# Altium footprint library SBC5.PcbLib: 19 footprints (part 1 of 2)
Each footprint in its own frame and in the unit in brackets; x right, y up, seen from the top. Pads: shape width x height; smd on the part's side, far side on the other; paste and mask are expansions set on the pad; w line width, h text height; cw(c..) or ccw(c..) is an arc to the next point about the centre after c.
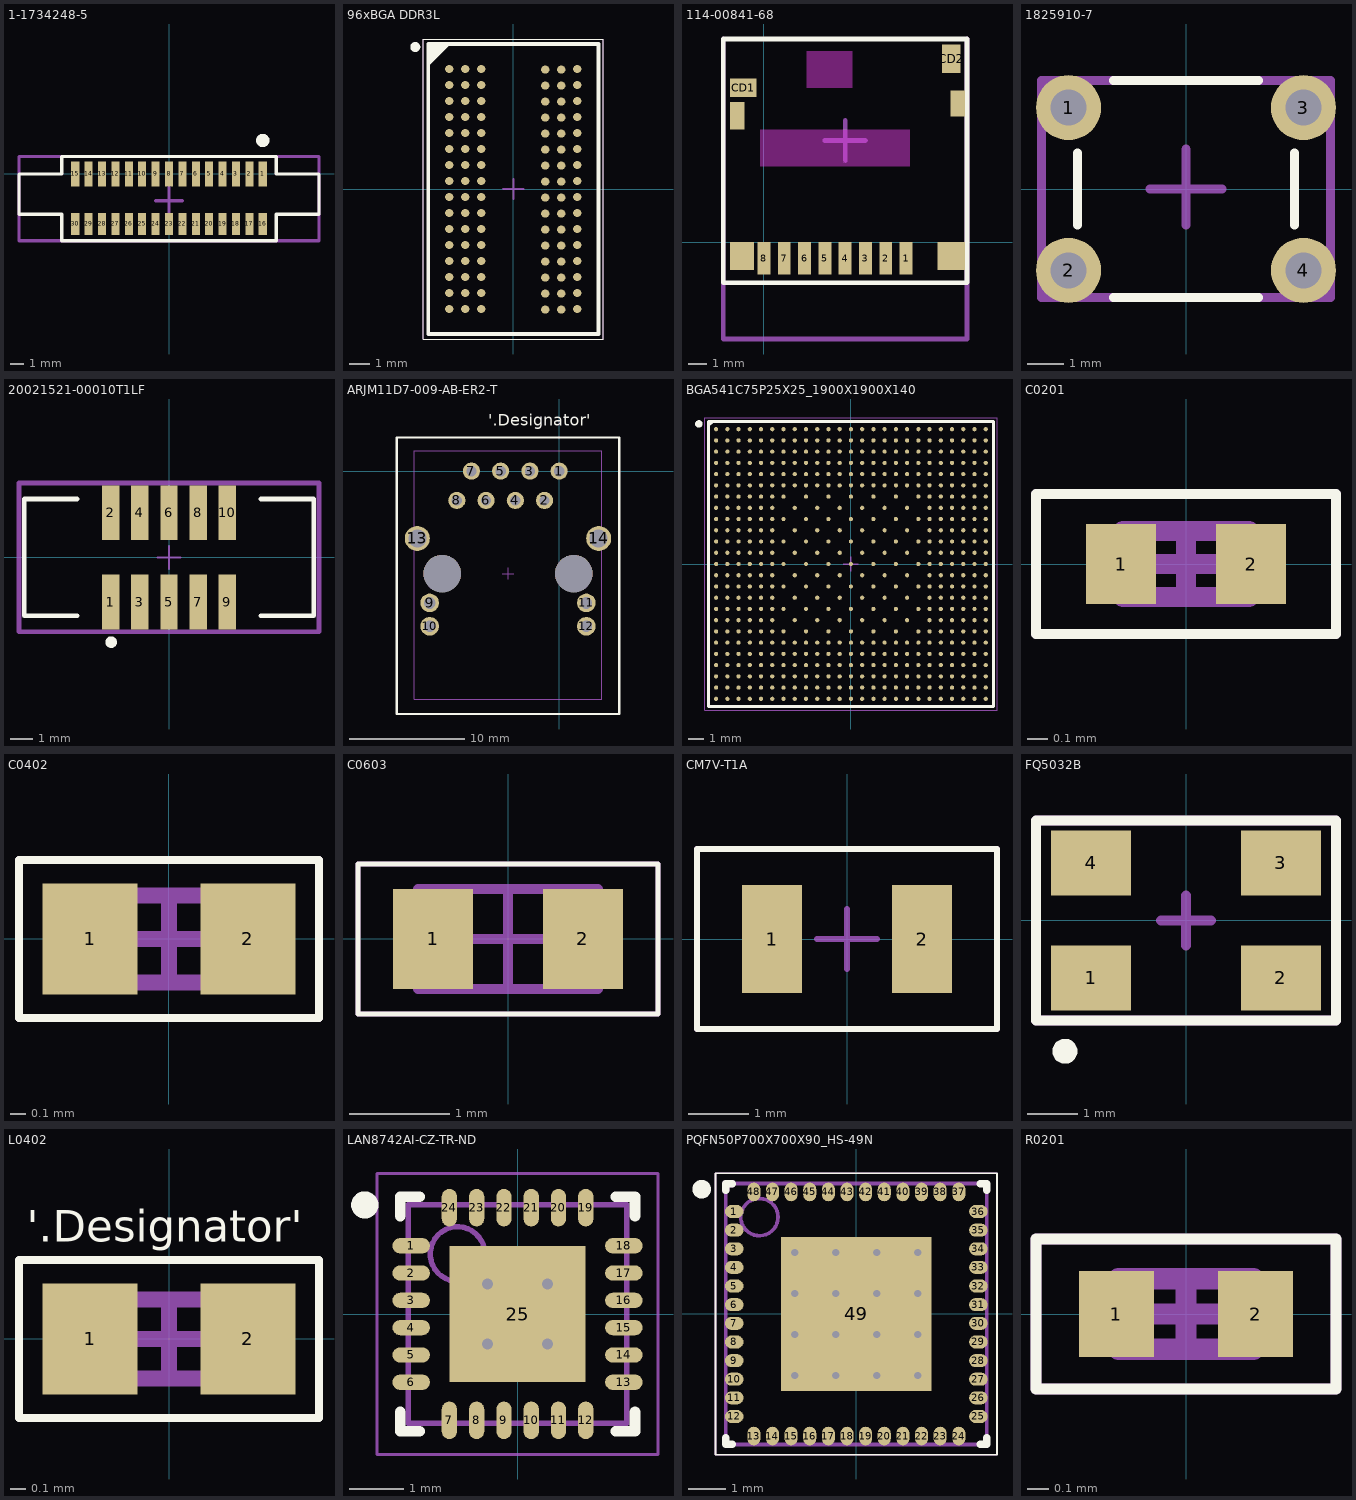
[diagram p0: the footprints below, top view; thin cyan lines are the x and y axes]

## 1-1734248-5 [mm]
pads (30):
  rect 0.6x1.85 smd: 1(7,0) 2(6,0) 3(5,0) 4(4,0) 5(3,0) 6(2,0) 7(1,0) 8(0,0) 9(-1,0) 10(-2,0) 11(-3,0) 12(-4,0) 13(-5,0) 14(-6,0) 15(-7,0)
  rect 0.6x1.65 smd: 16(7,-3.725) 17(6,-3.725) 18(5,-3.725) 19(4,-3.725) 20(3,-3.725) 21(2,-3.725) 22(1,-3.725) 23(0,-3.725) 24(-1,-3.725) 25(-2,-3.725) 26(-3,-3.725) 27(-4,-3.725) 28(-5,-3.725) 29(-6,-3.725) 30(-7,-3.725)
Top Overlay:
  circle w0.5: c7,2.5 r0.25
  lines w0.25: -11.2,-3 -8,-3 -8,-5 8,-5 8,-3 11.2,-3 11.2,0 8,0 8,1.3 -8,1.3 -8,0 -11.2,0 -11.2,-3
Mechanical 15:
  lines w0.25: -1,-2 1,-2 ; 0,-3 0,-1 ; -11.2,-5 -11.2,1.3 11.2,1.3 11.2,-5 -11.2,-5
3D body "c-1-1734248-5-e-3d.stp": height 5.69, standoff 0.01, extent -11.2,-4.45 11.2,0.4

## 96xBGA DDR3L [mm] "BGA, 128-Leads, Body 8.00x14.00mmx1.20mm, Pitch 0.80mm"
height 1.2
pads (96):
  oval 0.42x0.4 smd: A1(-3.2,6) A2(-2.4,6) A3(-1.6,6) A7(1.6,5.969) A8(2.4,5.969) A9(3.2,6) B1(-3.2,5.2) B2(-2.4,5.2) B3(-1.6,5.2) B7(1.6,5.169) B8(2.4,5.169) B9(3.2,5.2) C1(-3.2,4.4) C2(-2.4,4.4) C3(-1.6,4.4) C7(1.6,4.369) C8(2.4,4.369) C9(3.2,4.4) D1(-3.2,3.6) D2(-2.4,3.6) D3(-1.6,3.6) D7(1.6,3.569) D8(2.4,3.569) D9(3.2,3.6) E1(-3.2,2.8) E2(-2.4,2.8) E3(-1.6,2.8) E7(1.6,2.769) E8(2.4,2.769) E9(3.2,2.8) F1(-3.2,2) F2(-2.4,2) F3(-1.6,2) F7(1.6,1.969) F8(2.4,1.969) F9(3.2,2) G1(-3.2,1.2) G2(-2.4,1.2) G3(-1.6,1.2) G7(1.6,1.169) G8(2.4,1.169) G9(3.2,1.2) H1(-3.2,0.4) H2(-2.4,0.4) H3(-1.6,0.4) H7(1.6,0.369) H8(2.4,0.369) H9(3.2,0.4) J1(-3.2,-0.4) J2(-2.4,-0.4) J3(-1.6,-0.4) J7(1.6,-0.431) J8(2.4,-0.431) J9(3.2,-0.4) K1(-3.2,-1.2) K2(-2.4,-1.2) K3(-1.6,-1.2) K7(1.6,-1.231) K8(2.4,-1.231) K9(3.2,-1.2) L1(-3.2,-2) L2(-2.4,-2) L3(-1.6,-2) L7(1.6,-2.031) L8(2.4,-2.031) L9(3.2,-2) M1(-3.2,-2.8) M2(-2.4,-2.8) M3(-1.6,-2.8) M7(1.6,-2.831) M8(2.4,-2.831) M9(3.2,-2.8) N1(-3.2,-3.6) N2(-2.4,-3.6) N3(-1.6,-3.6) N7(1.6,-3.631) N8(2.4,-3.631) N9(3.2,-3.6) P1(-3.2,-4.4) P2(-2.4,-4.4) P3(-1.6,-4.4) P7(1.6,-4.431) P8(2.4,-4.431) P9(3.2,-4.4) R1(-3.2,-5.2) R2(-2.4,-5.2) R3(-1.6,-5.2) R7(1.6,-5.231) R8(2.4,-5.231) R9(3.2,-5.2) T1(-3.2,-6) T2(-2.4,-6) T3(-1.6,-6) T7(1.6,-6.031) T8(2.4,-6.031) T9(3.2,-6)
Top Overlay:
  circle w0.25: c-4.9,7.1 r0.125
  region: -3.25,7.25 -4.25,6.25 -4.25,7.25
  lines w0.05: -4.5,-7.5 4.5,-7.5 4.5,7.5 -4.5,7.5 -4.5,-7.5
  lines w0.2: -4.25,6.25 -3.25,7.25 ; -4.25,-7.25 4.25,-7.25 4.25,7.25 -4.25,7.25 -4.25,-7.25
Mechanical 13:
  lines w0.1: -4.25,-7.25 -4.25,7.25 4.25,7.25 4.25,-7.25 -4.25,-7.25
Mechanical 15:
  lines w0.05: -4.5,-7.5 -4.5,7.5 4.5,7.5 4.5,-7.5 -4.5,-7.5
  lines w0.1: -0.5,0 0.5,0 ; 0,-0.5 0,0.5
3D body "FBGA96_8X14_MRN.step": height 1.2, standoff 0, extent -4,-6.998 4,6.998

## 114-00841-68 [mm]
pads (14):
  rect 0.7x1.75 smd: 1(7.7,-0.875) 2(6.6,-0.875) 3(5.5,-0.875) 4(4.4,-0.875) 5(3.3,-0.875) 6(2.2,-0.875) 7(1.1,-0.875) 8(0,-0.875)
  rect 1.45x1 smd: CD1(-1.125,8.35)
  rect 1x1.55 smd: CD2(10.15,9.925)
  rect 1.3x1.5 smd: SHIELD1(-1.2,-0.75)
  rect 1.5x1.5 smd: SHIELD2(10.15,-0.75)
  rect 0.8x1.5 smd: SHIELD3(-1.45,6.85)
  rect 0.8x1.4 smd: SHIELD4(10.5,7.5)
Top Layer keep-out:
  rectangle: 2.3,8.35 4.8,10.35
  rectangle: -0.2,4.1 7.9,6.1
Top Overlay:
  lines w0.25: -2.2,-2.2 -2.2,11 11,11 11,-2.2 -2.2,-2.2
Mechanical 15:
  lines w0.25: -2.2,11 -2.2,-5.25 11,-5.25 11,11 ; 3.3,5.5 5.5,5.5 ; 4.4,4.4 4.4,6.6
3D body "1140084168-revA_1631510859.214.step": height 1.51, standoff 0.01, extent -1.5,-1.3 10.52,10.35

## 1825910-7 [mm]
pads (4):
  round 1.8 hole 1: 1(-3.25,2.25) 2(-3.25,-2.25) 3(3.25,2.25) 4(3.25,-2.25)
Top Overlay:
  lines w0.25: -3,-1 -3,1 ; -2,-3 2,-3 ; -2,3 2,3 ; 3,-1 3,1
Mechanical 15:
  lines w0.25: -1,0 1,0 ; 0,-1 0,1.1 ; -4,-3 4,-3 4,3 -4,3 -4,-3
3D body "1825910-7.stp": height 5.01, standoff -3.5, extent -3.9,-2.995 3.9,2.995

## 20021521-00010T1LF [mm]
pads (10):
  rect 0.76x2.4 smd: 1(-2.54,-1.95) 2(-2.54,1.95) 3(-1.27,-1.95) 4(-1.27,1.95) 5(0,-1.95) 6(0,1.95) 7(1.27,-1.95) 8(1.27,1.95) 9(2.54,-1.95) 10(2.54,1.95)
Top Overlay:
  circle w0.25: c-2.525,-3.7 r0.125
  lines w0.2: -4,-2.55 -6.325,-2.55 -6.325,2.55 -4,2.55 ; 4,-2.55 6.325,-2.55 6.325,2.55 4,2.55
Mechanical 15:
  lines w0.1: -0.5,0 0.5,0 ; 0,-0.5 0,0.5
  lines w0.2: -6.55,-3.25 -6.55,3.25 6.55,3.25 6.55,-3.25 -6.55,-3.25
3D body "20021521-00010XXLFc.stp": height 5.61, standoff 0.01, extent -6.325,-2.75 6.325,2.75

## ARJM11D7-009-AB-ER2-T [mm]
pads (16):
  round 1.49 hole 0.89: 1(0,0) 2(-1.27,-2.54) 3(-2.54,0) 4(-3.81,-2.54) 5(-5.08,0) 6(-6.35,-2.54) 7(-7.62,0) 8(-8.89,-2.54)
  round 1.62 hole 1.02: 9(-11.245,-11.44) 10(-11.245,-13.47) 11(2.355,-11.44) 12(2.355,-13.47)
  round 2.17 hole 1.57: 13(-12.32,-5.84) 14(3.43,-5.84)
  round 3.25 hole 3.25 unplated: ""(-10.16,-8.89) ""(1.27,-8.89)
Top Overlay:
  lines w0.2: -14.097,-21.086 5.207,-21.086 5.207,2.917 -14.097,2.917 -14.097,-21.086
  text "'.Designator'" at -6.15,3.962 h1
Mechanical 13:
  lines w0.1: -12.573,-19.816 -12.573,1.778 3.683,1.778 3.683,-19.816 -12.573,-19.816
Mechanical 15:
  lines w0.1: -4.945,-8.89 -3.945,-8.89 ; -4.445,-9.39 -4.445,-8.39
3D body "User Library-ARJ11B.STEP": height 13.85, standoff -3.29, extent -12.575,-19.816 3.685,1.774

## BGA541C75P25X25_1900X1900X140 [mm] "BGA, 541-Leads, Body 19.00x19.00mmx1.40mm, Pitch 0.75mm"
height 1.4
pads (541):
  round 0.28 smd: A1(-9,9) A2(-8.25,9) A3(-7.5,9) A4(-6.75,9) A5(-6,9) A6(-5.25,9) A7(-4.5,9) A8(-3.75,9) A9(-3,9) A10(-2.25,9) A11(-1.5,9) A12(-0.75,9) A13(0,9) A14(0.75,9) A15(1.5,9) A16(2.25,9) A17(3,9) A18(3.75,9) A19(4.5,9) A20(5.25,9) A21(6,9) A22(6.75,9) A23(7.5,9) A24(8.25,9) A25(9,9) AA1(-9,-6) AA2(-8.25,-6) AA3(-7.5,-6) AA4(-6.75,-6) AA5(-6,-6) AA6(-5.25,-6) AA7(-4.5,-6) AA8(-3.75,-6) AA9(-3,-6) AA10(-2.25,-6) AA11(-1.5,-6) AA12(-0.75,-6) AA13(0,-6) AA14(0.75,-6) AA15(1.5,-6) AA16(2.25,-6) AA17(3,-6) AA18(3.75,-6) AA19(4.5,-6) AA20(5.25,-6) AA21(6,-6) AA22(6.75,-6) AA23(7.5,-6) AA24(8.25,-6) AA25(9,-6) AB1(-9,-6.75) AB2(-8.25,-6.75) AB3(-7.5,-6.75) AB4(-6.75,-6.75) AB5(-6,-6.75) AB6(-5.25,-6.75) AB7(-4.5,-6.75) AB8(-3.75,-6.75) AB9(-3,-6.75) AB10(-2.25,-6.75) AB11(-1.5,-6.75) AB12(-0.75,-6.75) AB13(0,-6.75) AB14(0.75,-6.75) AB15(1.5,-6.75) AB16(2.25,-6.75) AB17(3,-6.75) AB18(3.75,-6.75) AB19(4.5,-6.75) AB20(5.25,-6.75) AB21(6,-6.75) AB22(6.75,-6.75) AB23(7.5,-6.75) AB24(8.25,-6.75) AB25(9,-6.75) AC1(-9,-7.5) AC2(-8.25,-7.5) AC3(-7.5,-7.5) AC4(-6.75,-7.5) AC5(-6,-7.5) AC6(-5.25,-7.5) AC7(-4.5,-7.5) AC8(-3.75,-7.5) AC9(-3,-7.5) AC10(-2.25,-7.5) AC11(-1.5,-7.5) AC12(-0.75,-7.5) AC13(0,-7.5) AC14(0.75,-7.5) AC15(1.5,-7.5) AC16(2.25,-7.5) AC17(3,-7.5) AC18(3.75,-7.5) AC19(4.5,-7.5) AC20(5.25,-7.5) AC21(6,-7.5) AC22(6.75,-7.5) AC23(7.5,-7.5) AC24(8.25,-7.5) AC25(9,-7.5) AD1(-9,-8.25) AD2(-8.25,-8.25) AD3(-7.5,-8.25) AD4(-6.75,-8.25) AD5(-6,-8.25) AD6(-5.25,-8.25) AD7(-4.5,-8.25) AD8(-3.75,-8.25) AD9(-3,-8.25) AD10(-2.25,-8.25) AD11(-1.5,-8.25) AD12(-0.75,-8.25) AD13(0,-8.25) AD14(0.75,-8.25) AD15(1.5,-8.25) AD16(2.25,-8.25) AD17(3,-8.25) AD18(3.75,-8.25) AD19(4.5,-8.25) AD20(5.25,-8.25) AD21(6,-8.25) AD22(6.75,-8.25) AD23(7.5,-8.25) AD24(8.25,-8.25) AD25(9,-8.25) AE1(-9,-9) AE2(-8.25,-9) AE3(-7.5,-9) AE4(-6.75,-9) AE5(-6,-9) AE6(-5.25,-9) AE7(-4.5,-9) AE8(-3.75,-9) AE9(-3,-9) AE10(-2.25,-9) AE11(-1.5,-9) AE12(-0.75,-9) AE13(0,-9) AE14(0.75,-9) AE15(1.5,-9) AE16(2.25,-9) AE17(3,-9) AE18(3.75,-9) AE19(4.5,-9) AE20(5.25,-9) AE21(6,-9) AE22(6.75,-9) AE23(7.5,-9) AE24(8.25,-9) AE25(9,-9) B1(-9,8.25) B2(-8.25,8.25) B3(-7.5,8.25) B4(-6.75,8.25) B5(-6,8.25) B6(-5.25,8.25) B7(-4.5,8.25) B8(-3.75,8.25) B9(-3,8.25) B10(-2.25,8.25) B11(-1.5,8.25) B12(-0.75,8.25) B13(0,8.25) B14(0.75,8.25) B15(1.5,8.25) B16(2.25,8.25) B17(3,8.25) B18(3.75,8.25) B19(4.5,8.25) B20(5.25,8.25) B21(6,8.25) B22(6.75,8.25) B23(7.5,8.25) B24(8.25,8.25) B25(9,8.25) C1(-9,7.5) C2(-8.25,7.5) C3(-7.5,7.5) C4(-6.75,7.5) C5(-6,7.5) C6(-5.25,7.5) C7(-4.5,7.5) C8(-3.75,7.5) C9(-3,7.5) C10(-2.25,7.5) C11(-1.5,7.5) C12(-0.75,7.5) C13(0,7.5) C14(0.75,7.5) C15(1.5,7.5) C16(2.25,7.5) C17(3,7.5) C18(3.75,7.5) C19(4.5,7.5) C20(5.25,7.5) C21(6,7.5) C22(6.75,7.5) C23(7.5,7.5) C24(8.25,7.5) C25(9,7.5) D1(-9,6.75) D2(-8.25,6.75) D3(-7.5,6.75) D4(-6.75,6.75) D5(-6,6.75) D6(-5.25,6.75) D7(-4.5,6.75) D8(-3.75,6.75) D9(-3,6.75) D10(-2.25,6.75) D11(-1.5,6.75) D12(-0.75,6.75) D13(0,6.75) D14(0.75,6.75) D15(1.5,6.75) D16(2.25,6.75) D17(3,6.75) D18(3.75,6.75) D19(4.5,6.75) D20(5.25,6.75) D21(6,6.75) D22(6.75,6.75) D23(7.5,6.75) D24(8.25,6.75) D25(9,6.75) E1(-9,6) E2(-8.25,6) E3(-7.5,6) E4(-6.75,6) E5(-6,6) E6(-5.25,6) E7(-4.5,6) E8(-3.75,6) E9(-3,6) E10(-2.25,6) E11(-1.5,6) E12(-0.75,6) E13(0,6) E14(0.75,6) E15(1.5,6) E16(2.25,6) E17(3,6) E18(3.75,6) E19(4.5,6) E20(5.25,6) E21(6,6) E22(6.75,6) E23(7.5,6) E24(8.25,6) E25(9,6) F1(-9,5.25) F2(-8.25,5.25) F3(-7.5,5.25) F4(-6.75,5.25) F5(-6,5.25) F6(-5.25,5.25) F7(-4.5,5.25) F8(-3.75,5.25) F9(-3,5.25) F10(-2.25,5.25) F11(-1.5,5.25) F12(-0.75,5.25) F13(0,5.25) F14(0.75,5.25) F15(1.5,5.25) F16(2.25,5.25) F17(3,5.25) F18(3.75,5.25) F19(4.5,5.25) F20(5.25,5.25) F21(6,5.25) F22(6.75,5.25) F23(7.5,5.25) F24(8.25,5.25) F25(9,5.25) G1(-9,4.5) G2(-8.25,4.5) G3(-7.5,4.5) G4(-6.75,4.5) G5(-6,4.5) G6(-5.25,4.5) G7(-4.5,4.5) G9(-3,4.5) G11(-1.5,4.5) G13(0,4.5) G15(1.5,4.5) G17(3,4.5) G19(4.5,4.5) G20(5.25,4.5) G21(6,4.5) G22(6.75,4.5) G23(7.5,4.5) G24(8.25,4.5) G25(9,4.5) H1(-9,3.75) H2(-8.25,3.75) H3(-7.5,3.75) H4(-6.75,3.75) H5(-6,3.75) H6(-5.25,3.75) H8(-3.75,3.75) H10(-2.25,3.75) H12(-0.75,3.75) H14(0.75,3.75) H16(2.25,3.75) H18(3.75,3.75) H20(5.25,3.75) H21(6,3.75) H22(6.75,3.75) H23(7.5,3.75) H24(8.25,3.75) H25(9,3.75) J1(-9,3) J2(-8.25,3) J3(-7.5,3) J4(-6.75,3) J5(-6,3) J6(-5.25,3) J7(-4.5,3) J9(-3,3) J11(-1.5,3) J13(0,3) J15(1.5,3) J17(3,3) J19(4.5,3) J20(5.25,3) J21(6,3) J22(6.75,3) J23(7.5,3) J24(8.25,3) J25(9,3) K1(-9,2.25) K2(-8.25,2.25) K3(-7.5,2.25) K4(-6.75,2.25) K5(-6,2.25) K6(-5.25,2.25) K8(-3.75,2.25) K10(-2.25,2.25) K12(-0.75,2.25) K14(0.75,2.25) K16(2.25,2.25) K18(3.75,2.25) K20(5.25,2.25) K21(6,2.25) K22(6.75,2.25) K23(7.5,2.25) K24(8.25,2.25) K25(9,2.25) L1(-9,1.5) L2(-8.25,1.5) L3(-7.5,1.5) L4(-6.75,1.5) L5(-6,1.5) L6(-5.25,1.5) L7(-4.5,1.5) L9(-3,1.5) L11(-1.5,1.5) L13(0,1.5) L15(1.5,1.5) L17(3,1.5) L19(4.5,1.5) L20(5.25,1.5) L21(6,1.5) L22(6.75,1.5) L23(7.5,1.5) L24(8.25,1.5) L25(9,1.5) M1(-9,0.75) M2(-8.25,0.75) M3(-7.5,0.75) M4(-6.75,0.75) M5(-6,0.75) M6(-5.25,0.75) M8(-3.75,0.75) M10(-2.25,0.75) M12(-0.75,0.75) M14(0.75,0.75) M16(2.25,0.75) M18(3.75,0.75) M20(5.25,0.75) M21(6,0.75) M22(6.75,0.75) M23(7.5,0.75) M24(8.25,0.75) M25(9,0.75) N1(-9,0) N2(-8.25,0) N3(-7.5,0) N4(-6.75,0) N5(-6,0) N6(-5.25,0) N7(-4.5,0) N9(-3,0) N11(-1.5,0) N13(0,0) N15(1.5,0) N17(3,0) N19(4.5,0) N20(5.25,0) N21(6,0) N22(6.75,0) N23(7.5,0) N24(8.25,0) N25(9,0) P1(-9,-0.75) P2(-8.25,-0.75) P3(-7.5,-0.75) P4(-6.75,-0.75) P5(-6,-0.75) P6(-5.25,-0.75) P8(-3.75,-0.75) P10(-2.25,-0.75) P12(-0.75,-0.75) P14(0.75,-0.75) P16(2.25,-0.75) P18(3.75,-0.75) P20(5.25,-0.75) P21(6,-0.75) P22(6.75,-0.75) P23(7.5,-0.75) P24(8.25,-0.75) P25(9,-0.75) R1(-9,-1.5) R2(-8.25,-1.5) R3(-7.5,-1.5) R4(-6.75,-1.5) R5(-6,-1.5) R6(-5.25,-1.5) R7(-4.5,-1.5) R9(-3,-1.5) R11(-1.5,-1.5) R13(0,-1.5) R15(1.5,-1.5) R17(3,-1.5) R19(4.5,-1.5) R20(5.25,-1.5) R21(6,-1.5) R22(6.75,-1.5) R23(7.5,-1.5) R24(8.25,-1.5) R25(9,-1.5) T1(-9,-2.25) T2(-8.25,-2.25) T3(-7.5,-2.25) T4(-6.75,-2.25) T5(-6,-2.25) T6(-5.25,-2.25) T8(-3.75,-2.25) T10(-2.25,-2.25) T12(-0.75,-2.25) T14(0.75,-2.25) T16(2.25,-2.25) T18(3.75,-2.25) T20(5.25,-2.25) T21(6,-2.25) T22(6.75,-2.25) T23(7.5,-2.25) T24(8.25,-2.25) T25(9,-2.25) U1(-9,-3) U2(-8.25,-3) U3(-7.5,-3) U4(-6.75,-3) U5(-6,-3) U6(-5.25,-3) U7(-4.5,-3) U9(-3,-3) U11(-1.5,-3) U13(0,-3) U15(1.5,-3) U17(3,-3) U19(4.5,-3) U20(5.25,-3) U21(6,-3) U22(6.75,-3) U23(7.5,-3) U24(8.25,-3) U25(9,-3) V1(-9,-3.75) V2(-8.25,-3.75) V3(-7.5,-3.75) V4(-6.75,-3.75) V5(-6,-3.75) V6(-5.25,-3.75) V8(-3.75,-3.75) V10(-2.25,-3.75) V12(-0.75,-3.75) V14(0.75,-3.75) V16(2.25,-3.75) V18(3.75,-3.75) V20(5.25,-3.75) V21(6,-3.75) V22(6.75,-3.75) V23(7.5,-3.75) V24(8.25,-3.75) V25(9,-3.75) W1(-9,-4.5) W2(-8.25,-4.5) W3(-7.5,-4.5) W4(-6.75,-4.5) W5(-6,-4.5) W6(-5.25,-4.5) W7(-4.5,-4.5) W9(-3,-4.5) W11(-1.5,-4.5) W13(0,-4.5) W15(1.5,-4.5) W17(3,-4.5) W19(4.5,-4.5) W20(5.25,-4.5) W21(6,-4.5) W22(6.75,-4.5) W23(7.5,-4.5) W24(8.25,-4.5) W25(9,-4.5) Y1(-9,-5.25) Y2(-8.25,-5.25) Y3(-7.5,-5.25) Y4(-6.75,-5.25) Y5(-6,-5.25) Y6(-5.25,-5.25) Y7(-4.5,-5.25) Y8(-3.75,-5.25) Y9(-3,-5.25) Y10(-2.25,-5.25) Y11(-1.5,-5.25) Y12(-0.75,-5.25) Y13(0,-5.25) Y14(0.75,-5.25) Y15(1.5,-5.25) Y16(2.25,-5.25) Y17(3,-5.25) Y18(3.75,-5.25) Y19(4.5,-5.25) Y20(5.25,-5.25) Y21(6,-5.25) Y22(6.75,-5.25) Y23(7.5,-5.25) Y24(8.25,-5.25) Y25(9,-5.25)
Top Overlay:
  circle w0.25: c-10.15,9.35 r0.125
  region: -9.264,9.5 -9.5,9.264 -9.5,9.5
  lines w0.2: -9.5,9.264 -9.264,9.5 ; -9.5,-9.5 9.5,-9.5 9.5,9.5 -9.5,9.5 -9.5,-9.5
Mechanical 13:
  lines w0.1: -9.5,-9.5 9.5,-9.5 9.5,9.5 -9.5,9.5 -9.5,-9.5
Mechanical 15:
  lines w0.05: -9.75,-9.75 9.75,-9.75 9.75,9.75 -9.75,9.75 -9.75,-9.75
  lines w0.1: -0.5,0 0.5,0 ; 0,-0.5 0,0.5
3D body "BGA541C75P25X25_1900X1900X140.step": height 1.4, standoff 0, extent -9.5,-9.5 9.5,9.5

## C0201 [mm]
height 0.33
pads (2):
  rect 0.35x0.4 smd: 1(-0.325,0) 2(0.325,0)
Top Overlay:
  lines w0.05: -0.75,-0.35 0.75,-0.35 0.75,0.35 -0.75,0.35 -0.75,-0.35
Mechanical 13:
  lines w0.1: -0.315,-0.165 0.315,-0.165 0.315,0.165 -0.315,0.165 -0.315,-0.165
Mechanical 15:
  lines w0.05: -0.75,-0.35 0.75,-0.35 0.75,0.35 -0.75,0.35 -0.75,-0.35
  lines w0.1: -0.165,0 0.165,0 ; 0,-0.165 0,0.165
3D body "R0201.step": height 0.33, standoff 0, extent -0.315,-0.165 0.315,0.165

## C0402 [mm]
height 0.55
pads (2):
  rect 0.6x0.7 smd: 1(-0.5,0) 2(0.5,0)
Top Overlay:
  lines w0.05: -0.95,-0.5 0.95,-0.5 0.95,0.5 -0.95,0.5 -0.95,-0.5
Mechanical 13:
  lines w0.1: -0.525,-0.275 0.525,-0.275 0.525,0.275 -0.525,0.275 -0.525,-0.275
Mechanical 15:
  lines w0.05: -0.95,-0.5 0.95,-0.5 0.95,0.5 -0.95,0.5 -0.95,-0.5
  lines w0.1: -0.275,0 0.275,0 ; 0,-0.275 0,0.275
3D body "C0402.step": height 0.55, standoff 0, extent -0.525,-0.275 0.525,0.275

## C0603 [mm]
height 1
pads (2):
  rect 0.8x1 smd: 1(-0.75,0) 2(0.75,0)
Top Overlay:
  lines w0.05: -1.5,-0.75 1.5,-0.75 1.5,0.75 -1.5,0.75 -1.5,-0.75
Mechanical 13:
  lines w0.1: -0.9,-0.5 0.9,-0.5 0.9,0.5 -0.9,0.5 -0.9,-0.5
Mechanical 15:
  lines w0.05: -1.5,-0.75 1.5,-0.75 1.5,0.75 -1.5,0.75 -1.5,-0.75
  lines w0.1: -0.5,0 0.5,0 ; 0,-0.5 0,0.5
3D body "C0603.step": height 1, standoff 0, extent -0.9,-0.5 0.9,0.5

## CM7V-T1A [mm]
pads (2):
  rect 1x1.8 smd: 1(-1.25,0) 2(1.25,0)
Top Overlay:
  lines w0.1: -2.5,-1.5 2.5,-1.5 2.5,1.5 -2.5,1.5 -2.5,-1.5
Mechanical 15:
  lines w0.1: -0.5,0 0.5,0 ; 0,-0.5 0,0.5 ; -2.5,-1.5 -2.5,1.5 2.5,1.5 2.5,-1.5 -2.5,-1.5
3D body "ABS07-120-32.768KHZ-T--3DModel-STEP-56544.STEP": height 0.91, standoff 0.01, extent -1.6,-0.75 1.6,0.75

## FQ5032B [mm]
pads (4):
  rect 1.6x1.3 smd: 1(-1.9,-1.15) 2(1.9,-1.15) 3(1.9,1.15) 4(-1.9,1.15)
Top Overlay:
  circle w0.25: c-2.42,-2.615 r0.125
  lines w0.2: -3,-2 3,-2 3,2 -3,2 -3,-2
Mechanical 15:
  lines w0.2: -0.5,0 0.5,0 ; 0,-0.5 0,0.5 ; -3,-2 -3,2 3,2 3,-2 -3,-2
3D body "User Library-crystal_smd_52x34x1.step": height 1.01, standoff 0.01, extent -2.6,-1.7 2.6,1.7

## L0402 [mm]
pads (2):
  rect 0.6x0.7 smd: 1(-0.5,0) 2(0.5,0)
Top Overlay:
  lines w0.05: -0.95,-0.5 0.95,-0.5 0.95,0.5 -0.95,0.5 -0.95,-0.5
  text "'.Designator'" at -0.9,0.617 h0.2
Mechanical 13:
  lines w0.1: -0.5,-0.25 0.5,-0.25 0.5,0.25 -0.5,0.25 -0.5,-0.25
Mechanical 15:
  lines w0.1: -0.25,0 0.25,0 ; 0,-0.25 0,0.25
3D body "BLM15HG601SN1D.STEP": height 0.56, standoff 0.01, extent -0.5,-0.25 0.5,0.25

## LAN8742AI-CZ-TR-ND [mm] "QFN, 24-Leads, Body 4.00x4.00mm, Pitch 0.50mm, Thermal Pad 2.60x2.60mm, IPC Medium Density"
height 1
pads (25):
  oval 0.69x0.28 smd: 1(-1.95,1.25) 2(-1.95,0.75) 3(-1.95,0.25) 4(-1.95,-0.25) 5(-1.95,-0.75) 6(-1.95,-1.25) 13(1.95,-1.25) 14(1.95,-0.75) 15(1.95,-0.25) 16(1.95,0.25) 17(1.95,0.75) 18(1.95,1.25)
  oval 0.28x0.69 smd: 7(-1.25,-1.95) 8(-0.75,-1.95) 9(-0.25,-1.95) 10(0.25,-1.95) 11(0.75,-1.95) 12(1.25,-1.95) 19(1.25,1.95) 20(0.75,1.95) 21(0.25,1.95) 22(-0.25,1.95) 23(-0.75,1.95) 24(-1.25,1.95)
  rect 2.5x2.5 smd: 25(0,0)
via -0.55,0.55 diameter 0.5 hole 0.2
via 0.55,0.55 diameter 0.5 hole 0.2
via -0.55,-0.55 diameter 0.5 hole 0.2
via 0.55,-0.55 diameter 0.5 hole 0.2
Top Overlay:
  circle w0.25: c-2.8,2 r0.125
  lines w0.2: -2.15,-1.8 -2.15,-2.15 -1.8,-2.15 ; -2.15,1.8 -2.15,2.15 -1.8,2.15 ; 1.8,-2.15 2.15,-2.15 2.15,-1.8 ; 1.8,2.15 2.15,2.15 2.15,1.8
Mechanical 13:
  circle w0.1: c-1.1,1.1 r0.5
  lines w0.1: -2,-2 -2,2 2,2 2,-2 -2,-2
Mechanical 15:
  lines w0.05: -2.575,-2.575 -2.575,2.575 2.575,2.575 2.575,-2.575 -2.575,-2.575
  lines w0.1: -0.5,0 0.5,0 ; 0,-0.5 0,0.5
3D body: height 1, standoff 0, extent -2.032,-2 1.968,2

## PQFN50P700X700X90_HS-49N [mm] "PQFN, 48-Leads, Body 7.00x7.00mm, Pitch 0.50mm, Thermal Pad 4.04x4.12mm, IPC Medium Density"
height 0.9
pads (49):
  oval 0.5x0.35 smd: 1(-3.275,2.75) 2(-3.275,2.25) 3(-3.275,1.75) 4(-3.275,1.25) 5(-3.275,0.75) 6(-3.275,0.25) 7(-3.275,-0.25) 8(-3.275,-0.75) 9(-3.275,-1.25) 10(-3.275,-1.75) 11(-3.275,-2.25) 12(-3.275,-2.75) 25(3.275,-2.75) 26(3.275,-2.25) 27(3.275,-1.75) 28(3.275,-1.25) 29(3.275,-0.75) 30(3.275,-0.25) 31(3.275,0.25) 32(3.275,0.75) 33(3.275,1.25) 34(3.275,1.75) 35(3.275,2.25) 36(3.275,2.75)
  oval 0.35x0.5 smd: 13(-2.75,-3.275) 14(-2.25,-3.275) 15(-1.75,-3.275) 16(-1.25,-3.275) 17(-0.75,-3.275) 18(-0.25,-3.275) 19(0.25,-3.275) 20(0.75,-3.275) 21(1.25,-3.275) 22(1.75,-3.275) 23(2.25,-3.275) 24(2.75,-3.275) 37(2.75,3.275) 38(2.25,3.275) 39(1.75,3.275) 40(1.25,3.275) 41(0.75,3.275) 42(0.25,3.275) 43(-0.25,3.275) 44(-0.75,3.275) 45(-1.25,3.275) 46(-1.75,3.275) 47(-2.25,3.275) 48(-2.75,3.275)
  rect 4.04x4.12 smd: 49(0,0)
via -1.65,1.65 diameter 0.5 hole 0.2
via -0.55,1.65 diameter 0.5 hole 0.2
via 0.55,1.65 diameter 0.5 hole 0.2
via 1.65,1.65 diameter 0.5 hole 0.2
via -1.65,0.55 diameter 0.5 hole 0.2
via -0.55,0.55 diameter 0.5 hole 0.2
via 0.55,0.55 diameter 0.5 hole 0.2
via 1.65,0.55 diameter 0.5 hole 0.2
via -1.65,-0.55 diameter 0.5 hole 0.2
via -0.55,-0.55 diameter 0.5 hole 0.2
via 0.55,-0.55 diameter 0.5 hole 0.2
via 1.65,-0.55 diameter 0.5 hole 0.2
via -1.65,-1.65 diameter 0.5 hole 0.2
via -0.55,-1.65 diameter 0.5 hole 0.2
via 0.55,-1.65 diameter 0.5 hole 0.2
via 1.65,-1.65 diameter 0.5 hole 0.2
Top Overlay:
  circle w0.25: c-4.15,3.35 r0.125
  lines w0.05: -3.775,-3.775 -3.775,3.775 3.775,3.775 3.775,-3.775 -3.775,-3.775
  lines w0.2: -3.5,-3.325 -3.5,-3.5 -3.325,-3.5 ; -3.5,3.325 -3.5,3.5 -3.325,3.5 ; 3.325,-3.5 3.5,-3.5 3.5,-3.325 ; 3.325,3.5 3.5,3.5 3.5,3.325
Mechanical 13:
  circle w0.1: c-2.6,2.6 r0.5
  lines w0.1: -3.5,-3.5 -3.5,3.5 3.5,3.5 3.5,-3.5 -3.5,-3.5
Mechanical 15:
  lines w0.05: -3.775,-3.775 3.775,-3.775 3.775,3.775 -3.775,3.775 -3.775,-3.775
  lines w0.1: -0.5,0 0.5,0 ; 0,-0.5 0,0.5
  lines w0.2: -3.5,3.325 -3.5,3.5 -3.325,3.5
3D body "PQFN50P700X700X90_HS-49N.step": height 0.9, standoff 0, extent -3.5,-3.5 3.5,3.5

## R0201 [mm] "Chip Resistor, 2-Leads, Body 0.60x0.30mm, IPC Medium Density"
height 0.26
pads (2):
  rect 0.35x0.4 smd: 1(-0.325,0) 2(0.325,0)
Top Overlay:
  lines w0.05: -0.7,-0.35 0.7,-0.35 0.7,0.35 -0.7,0.35 -0.7,-0.35
Mechanical 13:
  lines w0.1: -0.315,-0.165 -0.315,0.165 0.315,0.165 0.315,-0.165 -0.315,-0.165
Mechanical 15:
  lines w0.05: -0.7,-0.35 -0.7,0.35 0.7,0.35 0.7,-0.35 -0.7,-0.35
  lines w0.1: -0.165,0 0.165,0 ; 0,-0.165 0,0.165
3D body "R0402.step": height 0.26, standoff 0, extent -0.315,-0.165 0.315,0.165